# Altium schematic symbol library ISO6521DR.SchLib: 2 symbols
Pins are listed as number, name and electrical type; pins without a type are passive.

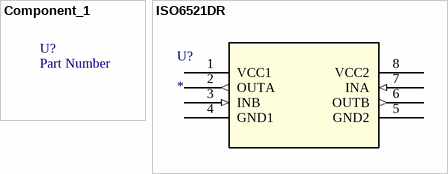
[diagram p0: symbols Component_1 to ISO6521DR]

## Component_1
designator U?, comment Part Number
XXX - Description - Package; GRAMS Lib Spec: 2.7

## ISO6521DR
designator U?
No Description Available; Mfr_Name: Texas Instruments; RefDes: RefDes; Type: Type
footprint SOIC8_D_TEX
pins: 1 VCC1 (power), 2 OUTA (out), 3 INB (in), 4 GND1 (power), 5 GND2 (power), 6 OUTB (out), 7 INA (in), 8 VCC2 (power)